# Altium schematic symbol library SNES_DRONE_V01.SCHLIB: 26 symbols
Pins are listed as number, name and electrical type; pins without a type are passive.

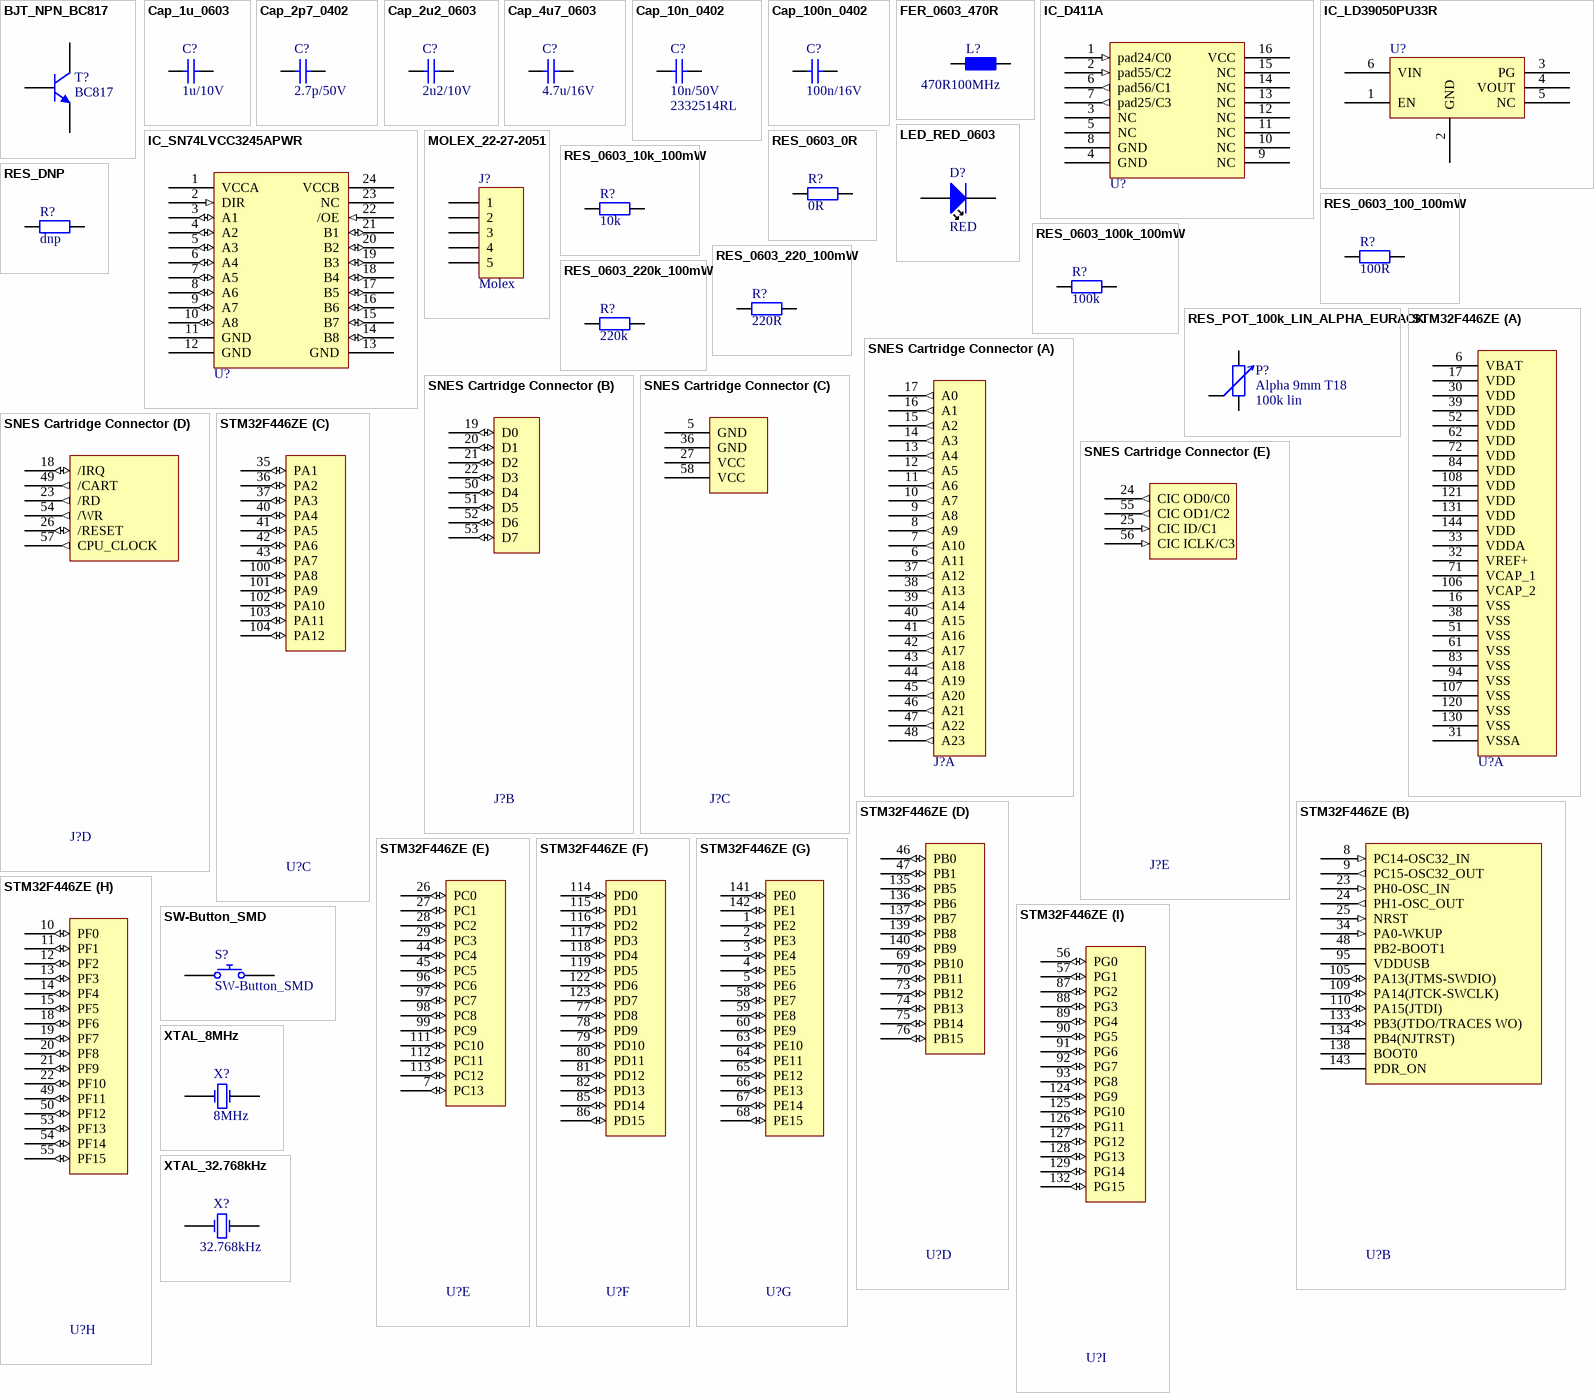
[diagram p0: symbols BJT_NPN_BC817 to XTAL_32.768kHz]

## BJT_NPN_BC817
designator T?, comment BC817
BJT, NPN, 45 V, 250 mW, 500 mA, 160 hFE; Manufacturer 1: NEXPERIA; Manufacturer Part Number 1: BC817-25,215; farnell number: 1081224; datasheet: http://www.farnell.com/datasheets/1913545.pdf?_ga=2.172501667.1080119096.1514547302-1693477411.1514385574; Supplier Order Qty 1: 5; Value: *; Supplier Unit Price 1: 0,123; ComponentLink1Description: datasheet; ComponentLink1URL: http://www.farnell.com/datasheets/699988.pdf?_ga=2.152104250.2061832810.1527062369-1851341051.1526919624; ComponentLink2Description: farnell; ComponentLink2URL: http://at.farnell.com/nexperia/bc817-25-215/bipolartransistor-npn-45v-0-5a/dp/1081224?ost=1081224&scope=partnumberlookahead&exaMfpn=true&searchref=searchlookahead&ddkey=http%3Ade-AT%2FElement14_Austria%2Fw%2Fsearch; Supplier 1: Farnell; Supplier Part Number 1: 2336779
footprint TO-236AB
pins: 1, 2, 3

## Cap_1u_0603
designator C?, comment 1u/10V
Keramikvielschichtkondensator, SMD, 1 µF, 10 V, 0603 [Metrisch 1608], ± 20%, X5R, WCAP-CSGP Series; Manufacturer 1: WURTH ELEKTRONIK; Manufacturer Part Number 1: 885012106010; farnell number: 1166020; datasheet: http://www.farnell.com/datasheets/2046096.pdf?_ga=2.184862249.1080119096.1514547302-1693477411.1514385574; Supplier Unit Price 1: 0,0826; Supplier Order Qty 1: 10; ComponentLink1Description: datasheet; ComponentLink1URL: http://www.farnell.com/datasheets/2031757.pdf?_ga=2.58341487.453785206.1540794792-1293375253.1539206166; ComponentLink2Description: farnell; ComponentLink2URL: https://at.farnell.com/wurth-elektronik/885012106010/kondensator-1-f-10v-20-x5r-0603/dp/2533941?st=1%C2%B5F%20SMD; Supplier 1: Farnell; Supplier Part Number 1: 2533941; Value: 1u/10V
footprint 0603_RES
pins: 1, 2

## Cap_2p7_0402
designator C?, comment 2.7p/50V
Keramikvielschichtkondensator, SMD, 2.7 pF, 50 V, 0402 [Metrisch 1005], ± 0.25pF, C0G / NP0; Manufacturer 1: KEMET; Manufacturer Part Number 1: C0402C279C5GACTU; farnell number: 1865415; datasheet: http://www.farnell.com/datasheets/2046096.pdf?_ga=2.184862249.1080119096.1514547302-1693477411.1514385574; Supplier Unit Price 1: 0,0482; Supplier Order Qty 1: 10; ComponentLink1Description: datasheet; ComponentLink1URL: http://www.farnell.com/datasheets/2315001.pdf?_ga=2.24763903.453785206.1540794792-1293375253.1539206166; ComponentLink2Description: farnell; ComponentLink2URL: https://at.farnell.com/kemet/c0402c279c5gactu/kondensator-2-7pf-50v-c0g-np0/dp/1865415; Supplier 1: Farnell; Supplier Part Number 1: 8771367; Value: 2.7p/50V
footprint 0402_RES
pins: 1, 2

## Cap_2u2_0603
designator C?, comment 2u2/10V
C1608X7R1A225K080AC -  Keramikvielschichtkondensator, SMD, 2.2 µF, 10 V, 0603 [Metrisch 1608], ± 10%, X7R, Baureihe C; Manufacturer 1: TDK; farnell number: 2346896; Supplier Unit Price 1: 0,177; Supplier Order Qty 1: 10; ComponentLink1Description: datasheet; ComponentLink1URL: http://www.farnell.com/datasheets/2291921.pdf?_ga=2.136060017.197329085.1542397831-1931041576.1541506444; ComponentLink2Description: farnell; ComponentLink2URL: https://at.farnell.com/tdk/c1608x7r1a225k080ac/kondensator-2-2-f-10v-10-x7r-0603/dp/2346896; Supplier 1: Farnell; Supplier Part Number 1: 2354341; Manufacturer Part Number 1: C1608X7R1A225K080AC; Value: 2u2/10V
footprint 0603_RES
pins: 1, 2

## Cap_4u7_0603
designator C?, comment 4.7u/16V
Keramikvielschichtkondensator, SMD, 4.7 µF, 16 V, 0603 [Metrisch 1608], ± 10%, X5R, Baureihe C; Manufacturer Part Number 1: C1608X5R1C475K080AC; Manufacturer 1: TDK; farnell number: 2211173; datasheet: http://www.farnell.com/datasheets/2046096.pdf?_ga=2.184862249.1080119096.1514547302-1693477411.1514385574; Supplier Unit Price 1: 0,2853; Supplier Order Qty 1: 10; ComponentLink1Description: datasheet; ComponentLink1URL: http://www.farnell.com/datasheets/2291921.pdf?_ga=2.59363432.453785206.1540794792-1293375253.1539206166; ComponentLink2Description: farnell; ComponentLink2URL: https://at.farnell.com/tdk/c1608x5r1c475k080ac/kondensator-4-7-f-16v-10-x5r-0603/dp/2211173; Supplier 1: Farnell; Supplier Part Number 1: 2366559; Value: 4.7u/16V
footprint 0603_RES
pins: 1, 2

## Cap_10n_0402
designator C?, comment Supplier Part Number 1: 2332514RL  (hidden comment: 10n/50V)
Keramikvielschichtkondensator, SMD, 10000 pF, 50 V, 0402 [Metrisch 1005], ± 10%, X7R, AVX 0402 MLCC; Manufacturer Part Number 1: 04025C103KAT2A; farnell number: 2332514; datasheet: http://www.farnell.com/datasheets/2237835.pdf?_ga=2.110684748.876692561.1541506444-1931041576.1541506444; Supplier Unit Price 1: 0,0689; Supplier Order Qty 1: 10; Supplier 1: Farnell; ComponentLink1Description: farnell; ComponentLink1URL: https://at.farnell.com/avx/04025c103kat2a/kondensator-0-01-f-50v-10-x7r/dp/2332514; ComponentLink2Description: datasheet; ComponentLink2URL: http://www.farnell.com/datasheets/2237835.pdf?_ga=2.156697970.876692561.1541506444-1931041576.1541506444; Manufacturer 1: AVX; Value: 10n/50V
footprint 0402_RES
pins: 1, 2

## Cap_100n_0402
designator C?, comment 100n/16V
Keramikvielschichtkondensator, SMD, 0.1 µF, 16 V, 0402 [Metrisch 1005], ± 10%, X5R, Baureihe MC; Manufacturer Part Number 1: MC0402X104K160CT; Manufacturer 1: MULTICOMP; farnell number: 1759388; datasheet: http://www.farnell.com/datasheets/2046096.pdf?_ga=2.184862249.1080119096.1514547302-1693477411.1514385574; Supplier Unit Price 1: 0,0226; Supplier Order Qty 1: 10; ComponentLink1Description: datasheet; ComponentLink1URL: http://www.farnell.com/datasheets/1901289.pdf?_ga=2.126104776.453785206.1540794792-1293375253.1539206166; ComponentLink2Description: farnell; ComponentLink2URL: https://at.farnell.com/multicomp/mc0402x104k160ct/kondensator-0-1-f-16v-10-x5r-0402/dp/1759388?st=1%C2%B5F%20SMD; Supplier 1: Farnell; Supplier Part Number 1: 1760121; Value: 100n/16V
footprint 0402_RES
pins: 1, 2

## FER_0603_470R
designator L?, comment 470R100MHz
BLM18PG471SN1D -  Ferritperle, 0603 [Metrisch 1608], 470 ohm, 1 A, Baureihe BLM18P, 0.2 ohm, ± 25%; Manufacturer 1: MURATA; Suppler Unit Price 1: 0,0562; Supplier Order Qty 1: 10; Value: 470R100MHz; ComponentLink1Description: datasheet; ComponentLink1URL: http://www.farnell.com/datasheets/1740433.pdf?_ga=2.107600706.197329085.1542397831-1931041576.1541506444; ComponentLink2Description: farnell; ComponentLink2URL: https://at.farnell.com/murata/blm18pg471sn1d/ferrite-perle-0603-bauform-470ohm/dp/1515745?MER=bn_browse_1TP_MostPopular_1; Supplier 1: Farnell; Manufacturer Part Number 1: BLM18PG471SN1D; Supplier Part Number 1: 1515745RL
footprint 0603_RES
pins: 1, 2

## IC_D411A
designator U?  (value not drawn)  (net tie, no BOM)
SNES CIC Chip; ComponentLink1Description: info; ComponentLink1URL: https://wiki.superfamicom.org/cic
footprint DIP16
pins: 1 pad24/C0 (in), 2 pad55/C2 (in), 3 NC (power), 4 GND (power), 5 NC (power), 6 pad56/C1 (out), 7 pad25/C3 (out), 8 GND (power), 9 NC (power), 10 NC (power), 11 NC (power), 12 NC (power), 13 NC (power), 14 NC (power), 15 NC (power), 16 VCC (power)

## IC_LD39050PU33R
designator U?, comment 3V3 LDO  (value not drawn)
1.5V bis 5.5V, 200mV Dropout, 3.3Vout/500mAout, DFN-6; Manufacturer 1: STMICROELECTRONICS; Manufacturer Part Number 1: LD39050PU33R; ComponentLink1Description: datasheet; ComponentLink1URL: http://www.farnell.com/datasheets/2370074.pdf?_ga=2.122701195.1861125961.1540492103-1293375253.1539206166; ComponentLink2Description: farnell; ComponentLink2URL: https://at.farnell.com/stmicroelectronics/ld39050pu33r/ldo-festspannungsregler-3-3v-05a/dp/2762703?ost=LD39050PU33R&scope=partnumberlookahead&searchref=searchlookahead&krypto=v2O8xpEkDJEehvbX%2FqTLShvehAxaR7YbrljqfXBDfuj50zIfUNJeDFxoc2A0Cze08nzHIR4SF3CGrRPxKfCBL9N4Yq42Uy500A7%2FEdTt8dRzgOzw%2Fj8TwoNTEnMHnxO5P9nblZl0nzcfLW4eKl3g9jkyXKFZo%2F%2F3gERokDoSJd1daTFFRRG4RHWY%2Faw5mstGXXVWChlIPClwUAfBvs7lsEkRRi3L6BEEcjGgbxAmuoyjrflm7W2cmCmFAOX3jxKSRrOL8bJdTwNoMSzZ80NlaqzDSklx7xUjpCCk0RrUqrhS2rfn8XOS9ekSGIN0jisMQ6yjxseOFahLMnID9YfMZLLrejIw7PCACE1KH5QrAhyB26QC6ydHdbiQWH38XibCYFlNF97wsMPhACNpyLVOfvihx8YctuoiihZPzzNLaWIIhos8bwZ1UCOH2zQQRLrAeq2frwHKfhpeRWeoHaU5KdzS3UWiDRDfxbAEMyuoNh2cSvLml6uU0JaqTtRq9XRhe4o8m2xstAETCiIEjA%2FYjMpxUs0LrbliBVEf%2Fd68ExGXwImciRdIZuwzcLHVr7kACefKmRIghVm8Cat3FppUfM3dD2yHupMFxuFRTHI4kG8%3D&ddkey=https%3Ade-AT%2FElement14_Austria%2Fw%2Fsearch; Supplier 1: Farnell; Supplier Part Number 1: 2762703; Supplier Unit Price 1: 0,915; Supplier Order Qty 1: 1
footprint DFN6_3x3
pins: 1 EN, 2 GND (power), 3 PG, 4 VOUT (power), 5 NC, 6 VIN (power)

## IC_SN74LVCC3245APWR
designator U?  (value not drawn)
Bus-Transceiver, Produktreihe LVC, 8 Eingänge, 50mA, 7ns, 2.3V bis 5.5V, TSSOP 24; Manufacturer 1: TEXAS INSTRUMENTS; ComponentLink3Description: datsheet; ComponentLink3URL: http://www.ti.com/lit/ds/symlink/sn74lvcc3245a.pdf; ComponentLink4Description: farnell; ComponentLink4URL: https://at.farnell.com/texas-instruments/sn74lvcc3245apwr/bus-transceiver-8bit-tssop-24/dp/2854646?rpsku=rel3%3A2119962&st=2119962; Supplier 1: Farnell; Supplier Part Number 1: 2854646; Manufacturer Part Number 1: SN74LVCC3245APWR; Supplier Unit Price 1: 0,99; Supplier Order Qty 1: 1
footprint TSSOP24
pins: 1 VCCA (power), 2 DIR (in), 3 A1 (io), 4 A2 (io), 5 A3 (io), 6 A4 (io), 7 A5 (io), 8 A6 (io), 9 A7 (io), 10 A8 (io), 11 GND (power), 12 GND (power), 13 GND (power), 14 B8 (io), 15 B7 (io), 16 B6 (io), 17 B5 (io), 18 B4 (io), 19 B3 (io), 20 B2 (io), 21 B1 (io), 22 /OE (in), 23 NC, 24 VCCB (power)

## LED_RED_0603
designator D?, comment value RED  (hidden comment: RED LED)
RED SMD 0603 LED 20mA 2V 0.04W; Manufacturer 1: KINGBRIGHT; Manufacturer Part Number 1: KPT-1608EC; farnell number: 2099221; datasheet: http://www.farnell.com/datasheets/2045911.pdf?_ga=2.71890899.197329085.1542397831-1931041576.1541506444; Supplier Order Qty 1: 5; Supplier Unit Price 1: 0,0686; Supplier 1: Farnell; ComponentLink1Description: datasheet; ComponentLink1URL: http://www.farnell.com/datasheets/2045911.pdf?_ga=2.71890899.197329085.1542397831-1931041576.1541506444; ComponentLink2Description: farnell; ComponentLink2URL: https://at.farnell.com/kingbright/kpt-1608ec/led-rot-0603-smd/dp/2099221; Supplier Part Number 1: 2099221RL
footprint 0603_LED
pins: 1 A, 2 K

## MOLEX_22-27-2051
designator J?  Manufacturer 1: Molex  (hidden comment: MOLEX_22-27-2051)
5 pin molex connector; farnell number: 9731679; Supplier Unit Price 1: 0,271; datasheet: http://www.farnell.com/datasheets/2266141.pdf?_ga=2.175065506.1080119096.1514547302-1693477411.1514385574; Manufacturer Part Number 1: 22-27-2051; Supplier 1: Farnell; ComponentLink1Description: datasheet; ComponentLink1URL: http://www.farnell.com/datasheets/1861453.pdf?_ga=2.126244552.471268527.1516457893-947204359.1516457893; ComponentLink2Description: farnell; ComponentLink2URL: http://at.farnell.com/molex/22-27-2051/header-square-pin-0-1zoll-5way/dp/9731679?ost=9731679&ddkey=http%3Ade-AT%2FElement14_Austria%2Fsearch; Supplier Part Number 1: 9731679; Supplier Order Qty 1: 10; Value: *
footprint MOLEX_22-27-2051 (5 pin molex connector 2.54mm width)
pins: 1, 2, 3, 4, 5

## RES_0603_0R
designator R?, comment 0R
YAGEO 0R; Manufacturer Part Number 1: RC0603FR-070RL; Suppler Unit Price 1: 0,053; Supplier Order Qty 1: 10; Supplier 1: Farnell; ComponentLink1Description: datasheet; ComponentLink1URL: http://www.farnell.com/datasheets/1868787.pdf?_ga=2.169539809.197329085.1542397831-1931041576.1541506444; ComponentLink2Description: farnell; ComponentLink2URL: https://at.farnell.com/yageo/rc0603fr-070rl/dickschichtwiderstand-0r0-1-0/dp/2693558; Supplier Part Number 1: 2309106; Manufacturer 1: YAGEO; Value: 0R
footprint 0603_RES
pins: 1, 2

## RES_0603_10k_100mW
designator R?, comment value 10k  (hidden comment: 10kOhm 100mW)
YAGEO 10kOhm 100mW ± 1%; Manufacturer Part Number 1: RC0603JR-0710KL; Suppler Unit Price 1: 0,0195; Supplier Order Qty 1: 10; Supplier 1: Farnell; ComponentLink1Description: datasheet; ComponentLink1URL: http://www.farnell.com/datasheets/2167052.pdf?_ga=2.236107713.197329085.1542397831-1931041576.1541506444; ComponentLink2Description: farnell; ComponentLink2URL: https://at.farnell.com/yageo/rc0603jr-0710kl/dickschichtwiderstand-10k-5-0/dp/9233504; Supplier Part Number 1: 9233504RL; Manufacturer 1: YAGEO
footprint 0603_RES
pins: 1, 2

## RES_0603_100_100mW
designator R?, comment value 100R  (hidden comment: 100Ohm 100mW)
PANASONIC ELECTRONIC COMPONENTS 100Ohm 100mW ± 1%; Manufacturer Part Number 1: ERJ3EKF1000V; Suppler Unit Price 1: 0,053; Supplier Order Qty 1: 10; Supplier 1: Farnell; ComponentLink1Description: datasheet; ComponentLink1URL: http://www.farnell.com/datasheets/1911175.pdf?_ga=2.135975793.197329085.1542397831-1931041576.1541506444; ComponentLink2Description: farnell; ComponentLink2URL: https://at.farnell.com/panasonic-electronic-components/erj3ekf1000v/dickschichtwiderstand-100r-1-0/dp/2303059; Supplier Part Number 1: 2304564; Manufacturer 1: PANASONIC ELECTRONIC COMPONENTS
footprint 0603_RES
pins: 1, 2

## RES_0603_100k_100mW
designator R?, comment value 100k  (hidden comment: 100kOhm 100mW)
WALSIN 6.8kOhm 100mW 75 ± 1%; Manufacturer 1: YAGEO; Manufacturer Part Number 1: RC0603FR-13100KL; Suppler Unit Price 1: 0,0156; datasheet: http://www.farnell.com/datasheets/1960319.pdf?_ga=2.194175406.2061832810.1527062369-1851341051.1526919624; price: 0,0156; Supplier Order Qty 1: 1; Supplier 1: Farnell; ComponentLink1Description: farnell; ComponentLink1URL: http://at.farnell.com/yageo/rc0603fr-13100kl/dickschichtwiderstand-100k-1-0/dp/2309107?ost=2309107&scope=partnumberlookahead&exaMfpn=true&searchref=searchlookahead&ddkey=http%3Ade-AT%2FElement14_Austria%2Fw%2Fsearch; ComponentLink2Description: datasheet; ComponentLink2URL: http://www.farnell.com/datasheets/2167052.pdf?_ga=2.98118940.2061832810.1527062369-1851341051.1526919624; Supplier Part Number 1: 1799369
footprint 0603_RES
pins: 1, 2

## RES_0603_220_100mW
designator R?, comment value 220R  (hidden comment: 220Ohm 100mW)
YAGEO 220Ohm 100mW ± 1%; Manufacturer Part Number 1: RC0603JR-07220RL; Suppler Unit Price 1: 0,053; Supplier Order Qty 1: 10; Supplier 1: Farnell; ComponentLink1Description: datasheet; ComponentLink1URL: http://www.farnell.com/datasheets/2167052.pdf?_ga=2.63044847.197329085.1542397831-1931041576.1541506444; ComponentLink2Description: farnell; ComponentLink2URL: https://at.farnell.com/yageo/rc0603jr-07220rl/dickschichtwiderstand-220r-5-0/dp/9233296; Manufacturer 1: YAGEO; Supplier Part Number 1: 9233296RL
footprint 0603_RES
pins: 1, 2

## RES_0603_220k_100mW
designator R?, comment value 220k  (hidden comment: 220kOhm 100mW)
VISHAY 220kOhm 100mW ± 1%; Manufacturer Part Number 1: CRCW0603220KFKEA; Suppler Unit Price 1: 0,021; Supplier Order Qty 1: 10; Supplier 1: Farnell; ComponentLink1Description: datasheet; ComponentLink1URL: http://www.farnell.com/datasheets/2310790.pdf?_ga=2.144355573.197329085.1542397831-1931041576.1541506444; ComponentLink2Description: farnell; ComponentLink2URL: https://at.farnell.com/vishay/crcw0603220kfkea/dickschichtwiderstand-220k-1-0/dp/1469783; Manufacturer 1: VISHAY; Supplier Part Number 1: 2122659
footprint 0603_RES
pins: 1, 2

## RES_DNP
designator R?, comment DNP  (no BOM)
Value: dnp
footprint 0603_DNP
pins: 1, 2

## RES_POT_100k_LIN_ALPHA_EURACK
designator P?  value 100k lin  Name: Alpha 9mm T18  (hidden comment: RES_POT_100k_LIN_ALPHA_EURACK)
Shaft Diameter – 6mm (0.2″) / Shaft Length – 15mm (0.59″); Manufacturer 1: Alpha; Manufacturer Part Number 1: SP17090051; ComponentLink1Description: thonk; ComponentLink1URL: https://www.thonk.co.uk/shop/alpha-9mm-pots-vertical-t18/; Supplier 1: Thonk; Supplier Part Number 1: Alpha 9mm Pots; Supplier Order Qty 1: 1; Supplier Unit Price 1: 1,99; ComponentLink2Description: datasheet; ComponentLink2URL: https://www.thonk.co.uk/wp-content/uploads/2017/12/Alpha-9mm-Vertical-T18-RD901F-40-15K-B50K-0057.pdf
footprint ALPHA_T18
pins: 1, 2, 3

## SNES Cartridge Connector
designator J?  (value not drawn)  (net tie, no BOM)
footprint SNES Cartridge Connector
part A pins: 6 A11 (out), 7 A10 (out), 8 A9 (out), 9 A8 (out), 10 A7 (out), 11 A6 (out), 12 A5 (out), 13 A4 (out), 14 A3 (out), 15 A2 (out), 16 A1 (out), 17 A0 (out), 37 A12 (out), 38 A13 (out), 39 A14 (out), 40 A15 (out), 41 A16 (out), 42 A17 (out), 43 A18 (out), 44 A19 (out), 45 A20 (out), 46 A21 (out), 47 A22 (out), 48 A23 (out)
part B pins: 19 D0 (io), 20 D1 (io), 21 D2 (io), 22 D3 (io), 50 D4 (io), 51 D5 (io), 52 D6 (io), 53 D7 (io)
part C pins: 5 GND (power), 27 VCC (power), 36 GND (power), 58 VCC (power)
part D pins: 18 /IRQ (io), 23 /RD (out), 26 /RESET (io), 49 /CART (out), 54 /WR (out), 57 CPU_CLOCK (out)
part E pins: 24 CIC OD0/C0 (out), 25 CIC ID/C1 (in), 55 CIC OD1/C2 (out), 56 CIC ICLK/C3 (in)

## STM32F446ZE
designator U?  (value not drawn)
ARM Cortex-M4, 180MHz, 512KB, 128KB; Manufacturer 1: ST; Manufacturer Part Number 1: STM32F446ZET6; farnell number: 2535607; datasheet: http://www.farnell.com/datasheets/1913545.pdf?_ga=2.172501667.1080119096.1514547302-1693477411.1514385574; Supplier Order Qty 1: 5; Value: *; Supplier Unit Price 1: 0,914; ComponentLink1Description: datasheet; ComponentLink1URL: http://www.farnell.com/datasheets/2309063.pdf?_ga=2.211445013.1861125961.1540492103-1293375253.1539206166; ComponentLink2Description: farnell; ComponentLink2URL: https://at.farnell.com/stmicroelectronics/stm32f446zet6/mcu-32bit-cortex-m4-180mhz-lqfp/dp/2488317?ost=STM32F446ZET6&scope=partnumberlookahead&searchref=searchlookahead&krypto=c3kNjvKBdgDFfKBoyKQ7uBR8CcHN8OihP%2FFRmWmhnjqGKzkXdgHVEsC0KjPeQc4yhoNBdiRdvz1UNXoeZ%2Bj9Wls9Ou9qhpytzyrLSPkMbSzMdEC257%2FL94QRGGS5HHvaMslZO2Q7%2B6CdbVDy5GqmpX33KX1yJm4tp9dxxMEe1JMGz1J40K%2BG1giSzi911lbsFGEvkm%2B2OaJvWyaxtKR2mAyqWullap%2BAFNEvolJUG1EHPiy5cjnXeImhlfdZhtWBdLgHpejLEui5Q6y5U7L2NYvYUl3K5pituisIIykjMSPPvhjcMk3tWgIKuacRYgN8kxpcHrLkyaDLpzoP5T5NY%2BHR9SwopXidDHX9YI3Yb34Y3YXsCIKK8qKpz0zDmwafzwjYGEhxJbTR8qzPL%2BDUrkSJooKnNUI2RI4wv%2FqyRs36BnDpuxjqxlwlPyG%2BLBMeDOHMBNjHJC4brpI6hfLJj75Ajkn2U7w%2B31NVMZq3xrvyCIT%2B4tTT8Pu%2BR%2FG%2FjvegGvNF1Kbe90ARMvaGPJ5x6rIipkziu%2BsfsHaTJXClEq2NLmS%2FHmvLTHYQS1iCR0rt0zwDZQAJpIRPSuMTGAQvu7iD0LTYC7oHGR4HslyVtrM%3D&ddkey=https%3Ade-AT%2FElement14_Austria%2Fw%2Fsearch; ComponentLink3Description: STM; ComponentLink3URL: https://www.st.com/en/microcontrollers/stm32f446ze.html; Supplier 1: Farnell; Supplier Part Number 1: 2488317
footprint LQFP144
footprint LQFP144_SMALL_PADS
part A pins: 6 VBAT (power), 16 VSS (power), 17 VDD (power), 30 VDD (power), 31 VSSA (power), 32 VREF+ (power), 33 VDDA (power), 38 VSS (power), 39 VDD (power), 51 VSS (power), 52 VDD (power), 61 VSS (power), 62 VDD (power), 71 VCAP_1, 72 VDD (power), 83 VSS (power), 84 VDD (power), 94 VSS (power), 106 VCAP_2, 107 VSS (power), 108 VDD (power), 120 VSS (power), 121 VDD (power), 130 VSS (power), 131 VDD (power), 144 VDD (power)
part B pins: 8 PC14-OSC32_IN (in), 9 PC15-OSC32_OUT (out), 23 PH0-OSC_IN (in), 24 PH1-OSC_OUT (out), 25 NRST (in), 34 PA0-WKUP (in), 48 PB2-BOOT1, 95 VDDUSB (power), 105 PA13(JTMS-SWDIO) (io), 109 PA14(JTCK-SWCLK) (io), 110 PA15(JTDI) (io), 133 PB3(JTDO/TRACES WO) (io), 134 PB4(NJTRST), 138 BOOT0, 143 PDR_ON
part C pins: 35 PA1 (io), 36 PA2 (io), 37 PA3 (io), 40 PA4 (io), 41 PA5 (io), 42 PA6 (io), 43 PA7 (io), 100 PA8 (io), 101 PA9 (io), 102 PA10 (io), 103 PA11 (io), 104 PA12 (io)
part D pins: 46 PB0 (io), 47 PB1 (io), 69 PB10 (io), 70 PB11 (io), 73 PB12 (io), 74 PB13 (io), 75 PB14 (io), 76 PB15 (io), 135 PB5 (io), 136 PB6 (io), 137 PB7 (io), 139 PB8 (io), 140 PB9 (io)
part E pins: 7 PC13 (io), 26 PC0 (io), 27 PC1 (io), 28 PC2 (io), 29 PC3 (io), 44 PC4 (io), 45 PC5 (io), 96 PC6 (io), 97 PC7 (io), 98 PC8 (io), 99 PC9 (io), 111 PC10 (io), 112 PC11 (io), 113 PC12 (io)
part F pins: 77 PD8 (io), 78 PD9 (io), 79 PD10 (io), 80 PD11 (io), 81 PD12 (io), 82 PD13 (io), 85 PD14 (io), 86 PD15 (io), 114 PD0 (io), 115 PD1 (io), 116 PD2 (io), 117 PD3 (io), 118 PD4 (io), 119 PD5 (io), 122 PD6 (io), 123 PD7 (io)
part G pins: 1 PE2 (io), 2 PE3 (io), 3 PE4 (io), 4 PE5 (io), 5 PE6 (io), 58 PE7 (io), 59 PE8 (io), 60 PE9 (io), 63 PE10 (io), 64 PE11 (io), 65 PE12 (io), 66 PE13 (io), 67 PE14 (io), 68 PE15 (io), 141 PE0 (io), 142 PE1 (io)
part H pins: 10 PF0 (io), 11 PF1 (io), 12 PF2 (io), 13 PF3 (io), 14 PF4 (io), 15 PF5 (io), 18 PF6 (io), 19 PF7 (io), 20 PF8 (io), 21 PF9 (io), 22 PF10 (io), 49 PF11 (io), 50 PF12 (io), 53 PF13 (io), 54 PF14 (io), 55 PF15 (io)
part I pins: 56 PG0 (io), 57 PG1 (io), 87 PG2 (io), 88 PG3 (io), 89 PG4 (io), 90 PG5 (io), 91 PG6 (io), 92 PG7 (io), 93 PG8 (io), 124 PG9 (io), 125 PG10 (io), 126 PG11 (io), 127 PG12 (io), 128 PG13 (io), 129 PG14 (io), 132 PG15 (io)

## SW-Button_SMD
designator S?
ALPS SMD Push Button; Manufacturer Part Number 1: SKQGAFE010; Supplier 1: Farnell; ComponentLink1Description: datasheet; ComponentLink1URL: http://www.farnell.com/datasheets/1582326.pdf?_ga=2.174774114.197329085.1542397831-1931041576.1541506444; ComponentLink2Description: farnell; ComponentLink2URL: https://at.farnell.com/alps/skqgafe010/taster-smd-0-98n-5-2x5-2mm/dp/2056843; Supplier Part Number 1: 2056843RL; Manufacturer 1: ALPS; Supplier Order Qty 1: 10; Supplier Unit Price 1: 0,544
footprint SKQGAFE010
pins: 1, 3

## XTAL_8MHz
designator X?, comment 8MHz
9B-8.000MAAJ-B -  Quarz, 8 MHz, Durchsteckmontage, 11.5mm x 5mm, 30 ppm, 18 pF, 30 ppm, Baureihe 9B; Manufacturer 1: TXC; ComponentLink1Description: farnell; ComponentLink1URL: https://at.farnell.com/txc/9b-8-000maaj-b/xtal-8-000mhz-18pf-hc-49s/dp/1842268; ComponentLink2Description: datasheet; ComponentLink2URL: http://www.farnell.com/datasheets/1364712.pdf?_ga=2.75608277.197329085.1542397831-1931041576.1541506444; Supplier 1: Farnell; Supplier Part Number 1: 1842268; Manufacturer Part Number 1: 9B-8.000MAAJ-B; Supplier Unit Price 1: 0,453; Supplier Order Qty 1: 1; Value: 8MHz
footprint XTAL_8MHZ
pins: 1, 2

## XTAL_32.768kHz
designator X?, comment 32.768kHz
AB38T-32.768KHZ -  Quarz, 32.768 kHz, Zylinder, radial bedrahtet, 8.2mm x 3.2mm Durchm., 12.5 pF, 20 ppm; Manufacturer 1: ABRACON; Supplier Unit Price 1: 0,167; Supplier Order Qty 1: 1; Value: 32.768kHz; ComponentLink1Description: datasheet; ComponentLink1URL: http://www.farnell.com/datasheets/1883667.pdf?_ga=2.68425681.197329085.1542397831-1931041576.1541506444; ComponentLink2Description: farnell; ComponentLink2URL: https://at.farnell.com/abracon/ab38t-32-768khz/quarz-32-768khz-12-5pf-uhr-a/dp/1611828; Supplier 1: Farnell; Supplier Part Number 1: 1611828; Manufacturer Part Number 1: AB38T-32.768KHZ
footprint XTAL_32768khz
pins: 1, 2